# Altium footprint library RADIAL_Test.PcbLib: 8 footprints
Each footprint in its own frame and in the unit in brackets; x right, y up, seen from the top. Pads: shape width x height; smd on the part's side, far side on the other; paste and mask are expansions set on the pad; w line width, h text height; cw(c..) or ccw(c..) is an arc to the next point about the centre after c.
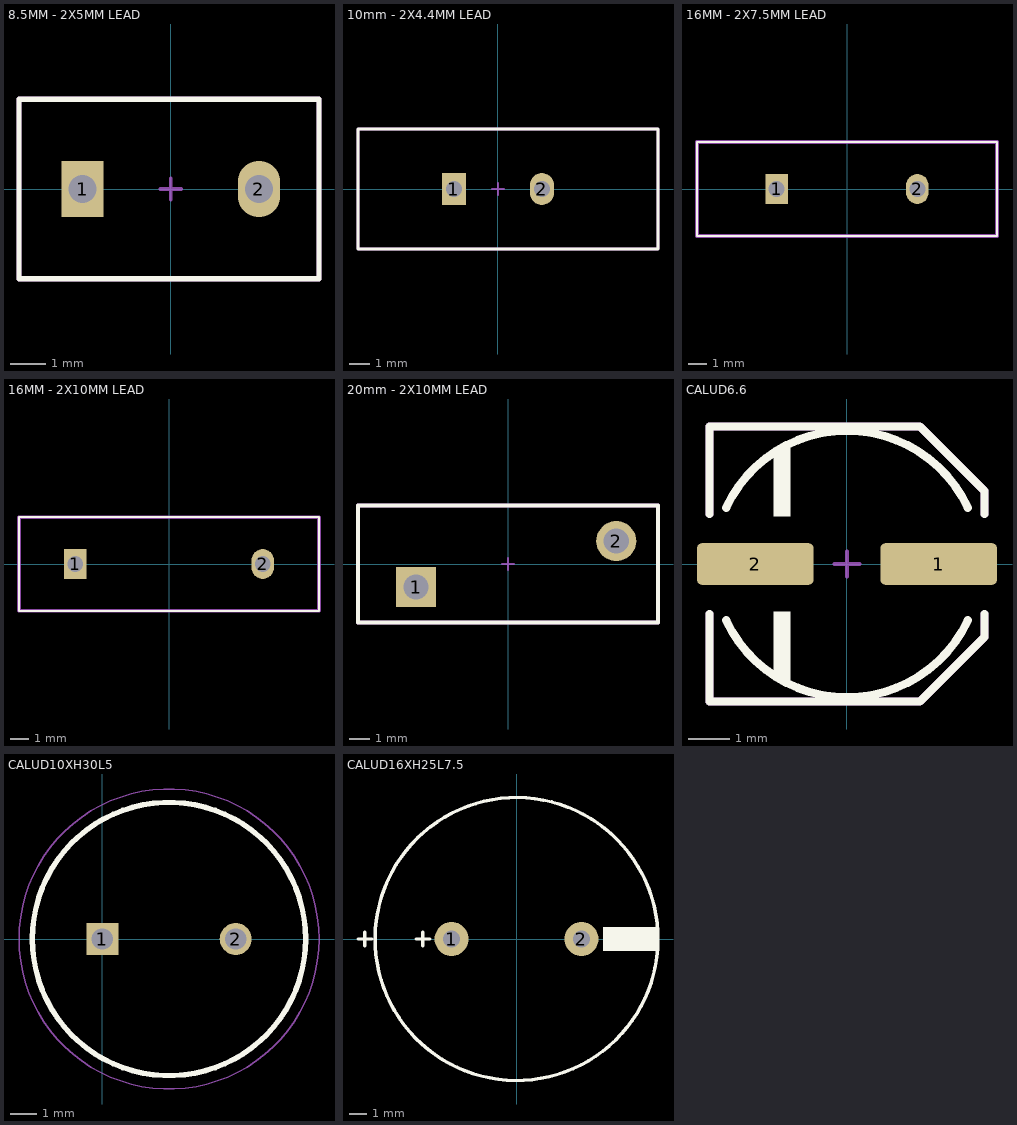
[diagram p0: the footprints below, top view; thin cyan lines are the x and y axes]

## 8.5MM - 2X5MM LEAD [mm]
pads (2):
  rect 1.2x1.6 hole 0.8 mask+0.05: 1(-2.5,0)
  oval 1.2x1.6 hole 0.8 mask+0.05: 2(2.5,0)
Top Overlay:
  lines w0.15: -4.3,-2.54 -4.3,2.54 4.2,2.54 4.2,-2.54 -4.3,-2.54
Mechanical 15:
  lines w0.1: -0.3,0 0.3,0 ; 0,-0.3 0,0.3
Mechanical 29:
  lines w0.15: -4.3,-2.54 4.2,-2.54 4.2,2.54 -4.3,2.54 -4.3,-2.54
  text "'.Designator'" at -2.092,-0.226 h1
3D body "CAP_F_8_5X5P_VIS.step": height 15, standoff -1.87, extent -4.305,-2.502 4.204,2.502

## 10mm - 2X4.4MM LEAD [mm]
pads (2):
  rect 1.2x1.6 hole 0.8 mask+0.05: 1(-2.2,0)
  oval 1.2x1.6 hole 0.8 mask+0.05: 2(2.2,0)
Top Overlay:
  lines w0.15: -6.985,-3 8.001,-3 8.001,3 -6.985,3 -6.985,-3
Mechanical 15:
  lines w0.1: -0.3,0 0.3,0 ; 0,-0.3 0,0.3
Mechanical 29:
  lines w0.15: -6.985,-3 -6.985,3 8.001,3 8.001,-3 -6.985,-3
  text "'.Designator'" at -2.417,-0.226 h1
3D body: height 15.5, standoff -2, extent 1.881,-0.3 2.519,0.339
3D body: height 15.5, standoff -2, extent -2.5,-0.3 -1.863,0.339
3D body: height 25, standoff 10, extent -7,-3 8,3

## 16MM - 2X7.5MM LEAD [mm]
pads (2):
  rect 1.2x1.6 hole 0.85 mask+0.05: 1(-3.75,0)
  oval 1.2x1.6 hole 0.85 mask+0.05: 2(3.75,0)
Top Overlay:
  lines w0.1: -8,-2.5 -8,2.5 8,2.5 8,-2.5 -8,-2.5
Mechanical 13:
  lines w0.2: -8,-2.5 -8,2.5 8,2.5 8,-2.5 -8,-2.5
Mechanical 29:
  lines w0.1: -8,-2.5 -8,2.5 8,2.5 8,-2.5 -8,-2.5
  text "'.Designator'" at -2.417,-0.226 h1
3D body "VY2103M63Y5UG63V7.stp": height 21.01, standoff -3.99, extent -8,-2.5 8,2.5

## 16MM - 2X10MM LEAD [mm]
pads (2):
  rect 1.2x1.6 hole 0.85 mask+0.05: 1(-5,0)
  oval 1.2x1.6 hole 0.85 mask+0.05: 2(5,0)
Top Overlay:
  lines w0.1: -8,-2.5 8,-2.5 8,2.5 -8,2.5 -8,-2.5
Mechanical 13:
  lines w0.2: -8,-2.5 8,-2.5 8,2.5 -8,2.5 -8,-2.5
Mechanical 29:
  lines w0.1: -8.001,-2.54 8.001,-2.54 8.001,2.54 -8.001,2.54 -8.001,-2.54
  text "'.Designator'" at -2.417,-0.226 h1
3D body "VY1472M63Y5UQ63V0.stp": height 21.01, standoff -3.99, extent -8,-2.5 8,2.5

## 20mm - 2X10MM LEAD [mm]
pads (2):
  rect 2x2 hole 1.25: 1(-4.593,-1.153)
  round 2 hole 1.25: 2(5.407,1.147)
Top Overlay:
  lines w0.2: -7.493,-2.921 -7.493,2.921 7.493,2.921 7.493,-2.921 -7.493,-2.921
Mechanical 13:
  lines w0.2: -7.493,-2.921 7.493,-2.921 7.493,2.921 -7.493,2.921 -7.493,-2.921
Mechanical 15:
  lines w0.1: -0.3,0 0.3,0 ; 0,-0.3 0,0.3
Mechanical 29:
  lines w0.2: -7.493,-2.921 7.493,-2.921 7.493,2.921 -7.493,2.921 -7.493,-2.921
  text "'.Designator'" at -2.417,-0.226 h1
3D body: height 15.5, standoff -2, extent 5.09,0.828 5.727,1.467
3D body: height 15.5, standoff -2, extent -4.91,-1.472 -4.273,-0.833
3D body: height 25, standoff 10, extent -7.5,-3 7.5,3

## CALUD6.6 [mm]
pads (2):
  rrect25% 2.8x1 smd mask+0.05: 1(2.2,0) 2(-2.2,0)
Top Overlay:
  region: -1.36,-1.143 -1.76,-1.143 -1.76,-2.8 -1.36,-2.8
  region: -1.36,2.8 -1.76,2.8 -1.76,1.143 -1.36,1.143
  lines w0.2: -3.3,-1.2 -3.3,-3.3 1.75,-3.3 3.3,-1.75 3.3,-1.2 ; -3.3,1.2 -3.3,3.3 1.75,3.3 3.3,1.75 3.3,1.2 ; -2.9,-1.352 ccw(c0,0) 2.9,-1.352 ; -2.9,1.352 cw(c0,0) 2.9,1.352
Mechanical 15:
  lines w0.1: -0.3,0 0.3,0 ; 0,-0.3 0,0.3
Mechanical 29:
  lines w0.2: -3.3,-1.2 -3.3,-3.3 1.75,-3.3 3.3,-1.75 3.3,-1.2 ; -3.3,1.2 -3.3,3.3 1.75,3.3 3.3,1.75 3.3,1.2
  text "'.Designator'" at -2.457,-0.317 h1.02
3D body "User Library-ALU-D8.STEP": height 7.7, standoff 0, extent -3.5,-3.3 3.5,3.3

## CALUD10XH30L5 [mm]
pads (2):
  rect 1.2x1.2 hole 0.8: 1(0,0)
  round 1.2 hole 0.8: 2(5,0)
Top Overlay:
  circle w0.2: c2.5,0 r5.125
Mechanical 13:
  circle w0.1: c2.5,0 r5.125
Mechanical 15:
  circle w0.05: c2.5,0 r5.625
3D body "User Library-CapAluRadial_D100H300P50.step": height 30.01, standoff -2.99, extent -2.501,-4.998 7.5,4.999

## CALUD16XH25L7.5 [mm] "Cap Elec, D16.0X25.0H pitch: 7.6mm, RB.3/.6"
pads (2):
  round 2 hole 1: 1(-3.81,0) 2(3.81,0)
Top Overlay:
  rectangle: 5.07,-0.7 8.25,0.7
  lines w0.2: -9.3,0 -8.5,0 ; -8.9,-0.4 -8.9,0.4 ; -5.9,0 -5.1,0 ; -5.5,-0.4 -5.5,0.4 ; 8.148,-1.584 cw(c0,0) 8.152,-1.563
3D body "User Library-CE_R300_D650_H1000.step": height 25.4, standoff -3.5, extent -8.235,-8.239 8.25,8.239